# EAGLE library part L3GD20 (library TinWhiskers)
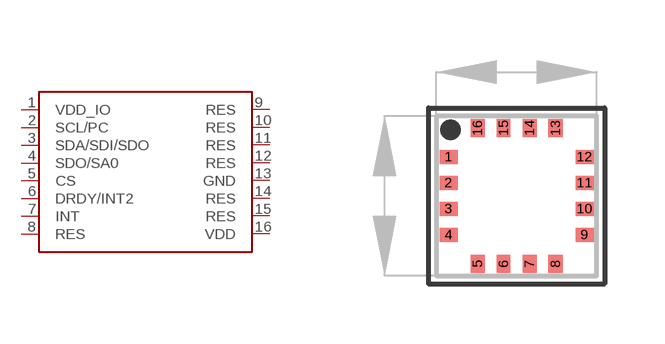
[diagram p3: symbol with the pads of 16-LGA; footprint 16-LGA]

Designator prefix -

## L3GD20  [16-LGA]
1  VDD_IO  pwr
2  SCL/PC
3  SDA/SDI/SDO
4  SDO/SA0  out
5  CS
6  DRDY/INT2
7  INT
8  RES  pwr
9  RES  pwr
10  RES  pwr
11  RES  pwr
12  RES  oc
13  GND  pwr
14  RES  pwr
15  RES  pwr
16  VDD  pwr

## Footprint 16-LGA (pad centres in mm)
L3GD20 Motion Sensor/Gyroscope
smd 0.45 x 0.35: 1 -1.7,0.975; 2 -1.7,0.325; 3 -1.7,-0.325; 4 -1.7,-0.975; 9 1.7,-0.975; 10 1.7,-0.325; 11 1.7,0.325; 12 1.7,0.975
smd 0.35 x 0.45: 5 -0.975,-1.7; 6 -0.325,-1.7; 7 0.325,-1.7; 8 0.975,-1.7; 13 0.975,1.7; 14 0.325,1.7; 15 -0.325,1.7; 16 -0.975,1.7